# EAGLE library part EMR2004-2 (library displays)
ERM2004-2 Series
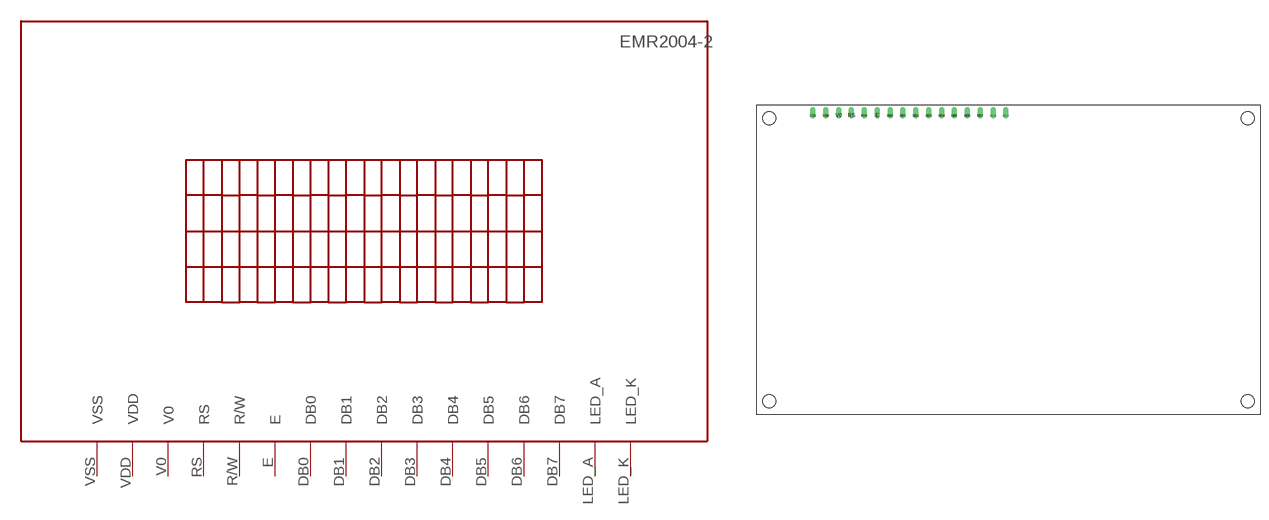
[diagram p0: symbol with the pads of EMR2004-2; footprint EMR2004-2]

Designator prefix -

## EMR2004-2  [EMR2004-2]
DB0  DB0
DB1  DB1
DB2  DB2
DB3  DB3
DB4  DB4
DB5  DB5
DB6  DB6
DB7  DB7
E  E
LED_A  LED_A
LED_K  LED_K
R/W  R/W
RS  RS
V0  V0  pwr
VDD  VDD  pwr
VSS  VSS  pwr

## Footprint EMR2004-2 (pad centres in mm)
drill 0.6 offset: DB0 -23,28; DB1 -20.5,28; DB2 -18,28; DB3 -15.5,28; DB4 -13,28; DB5 -10.5,28; DB6 -8,28; DB7 -5.5,28; E -25.5,28; LED_A -3,28; LED_K -0.5,28; R/W -28,28; RS -30.5,28; V0 -33,28; VDD -35.5,28; VSS -38,28
hole 2.5 at -46.5,27.5
hole 2.5 at -46.5,-27.5
hole 2.5 at 46.5,-27.5
hole 2.5 at 46.5,27.5